# Altium footprint library 16-TFSOP_Exposed_Pad.PcbLib: 1 footprints
Each footprint in its own frame and in the unit in brackets; x right, y up, seen from the top. Pads: shape width x height; smd on the part's side, far side on the other; paste and mask are expansions set on the pad; w line width, h text height; cw(c..) or ccw(c..) is an arc to the next point about the centre after c.
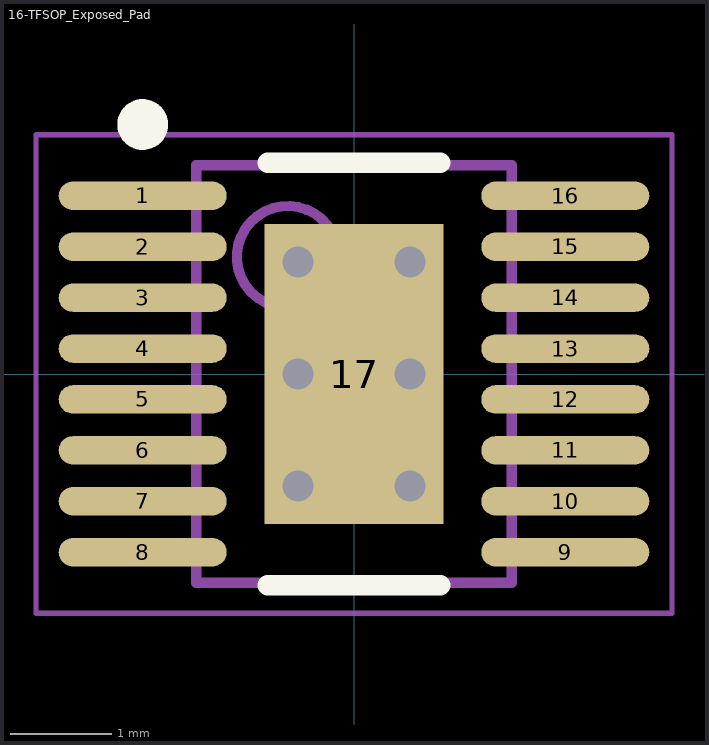
[diagram p0: the footprint, top view; thin cyan lines are the x and y axes]

## 16-TFSOP_Exposed_Pad [mm] "LT8610"
height 1.1
pads (17):
  oval 1.65x0.279 smd: 1(-2.075,1.75) 2(-2.075,1.25) 3(-2.075,0.75) 4(-2.075,0.25) 5(-2.075,-0.25) 6(-2.075,-0.75) 7(-2.075,-1.25) 8(-2.075,-1.75) 9(2.075,-1.75) 10(2.075,-1.25) 11(2.075,-0.75) 12(2.075,-0.25) 13(2.075,0.25) 14(2.075,0.75) 15(2.075,1.25) 16(2.075,1.75)
  rect 1.76x2.95 smd: 17(0,0)
via -0.55,1.1 diameter 0.61 hole 0.305
via 0.55,1.1 diameter 0.61 hole 0.305
via -0.55,0 diameter 0.61 hole 0.305
via 0.55,0 diameter 0.61 hole 0.305
via -0.55,-1.1 diameter 0.61 hole 0.305
via 0.55,-1.1 diameter 0.61 hole 0.305
Top Overlay:
  circle w0.25: c-2.075,2.45 r0.125
  lines w0.2: -0.85,-2.075 0.85,-2.075 ; -0.85,2.075 0.85,2.075
Mechanical 13:
  circle w0.1: c-0.65,1.15 r0.5
  lines w0.1: -1.55,-2.05 -1.55,2.05 1.55,2.05 1.55,-2.05 -1.55,-2.05
Mechanical 15:
  lines w0.05: -3.125,-2.35 -3.125,2.35 3.125,2.35 3.125,-2.35 -3.125,-2.35
  lines w0.1: -0.5,0 0.5,0 ; 0,-0.5 0,0.5
3D body: height 1.1, standoff 0.18, extent -1.55,-2.05 1.55,2.05